# Altium schematic symbol library RF.Diplexers.SchLib: 1 symbol
Pins are listed as number, name and electrical type; pins without a type are passive.

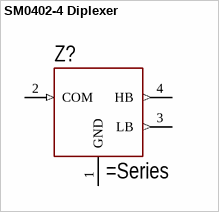
[diagram p0: symbol SM0402-4 Diplexer]

## SM0402-4 Diplexer
designator Z?
RF Diplexer in SM0603-4 Package
pins: 1 GND, 2 COM (in), 3 LB (out), 4 HB (out)